# EAGLE library part RS422-DPR1097 (library ED-MOD)
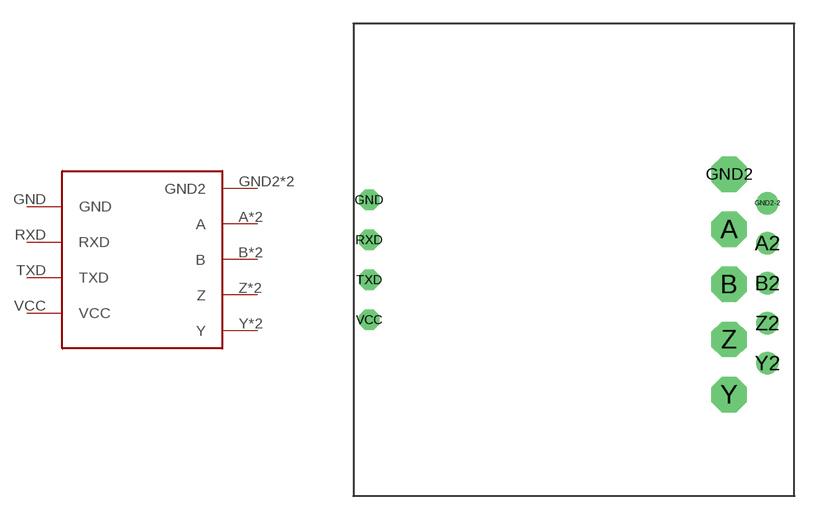
[diagram p3: symbol with the pads of DPR1097-1; footprint DPR1097-1]

Designator prefix -

## RS422-DPR1097  [DPR1097-1]
A  A
A2  A
B  B
B2  B
GND  GND
GND2  GND2
GND2-2  GND2
RXD  RXD
TXD  TXD
VCC  VCC
Y  Y
Y2  Y
Z  Z
Z2  Z

## Footprint DPR1097-1 (pad centres in mm)
drill 1.5 octagon: A 22.85,1.94; B 22.85,-1.56; GND2 22.85,5.44; Y 22.85,-8.56; Z 22.85,-5.06
drill 0.9: A2 25.29,1.05; B2 25.29,-1.49; GND2-2 25.29,3.59; Y2 25.29,-6.57; Z2 25.29,-4.03
drill 0.8 octagon: GND 0,3.81; RXD 0,1.27; TXD 0,-1.27; VCC 0,-3.81